# EAGLE library part MOLEX-85505-5002 (library cpsmv)
RJ45 Connector, Through-hole, Shielded, Right-angle
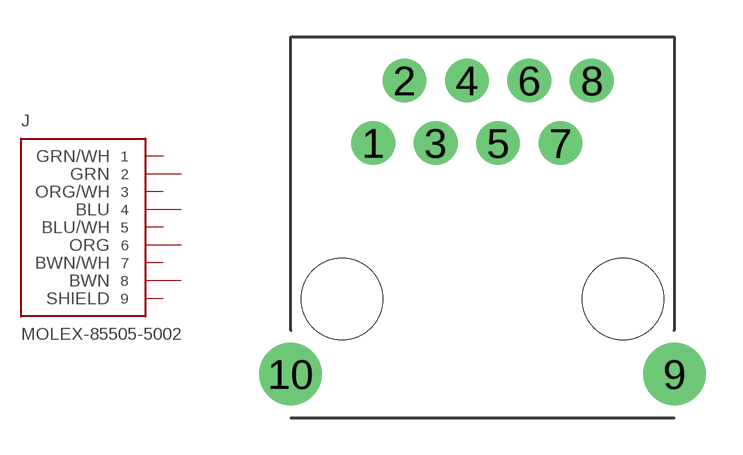
[diagram p14: symbol with the pads of 85505-5002; footprint 85505-5002]

Designator prefix J

## MOLEX-85505-5002 (DATASHEET_LINK: http://www.molex.com/pdm_docs/sd/855055002_sd.pdf; MANUFACTURER: Molx; MANUFACTURER_PN: 855055002; PACKAGE: RJ45, Thru-hole, Shielded, R/A; SUPPLIER: Digi-Key; SUPPLIER_PN: WM7131CT-ND)  [85505-5002]
1  1  pwr
2  2  pas
3  3  pas
4  4  pas
5  5  pas
6  6  pas
7  7  pas
8  8  pas
9  9  pas
10  9  pas

## Footprint 85505-5002 (pad centres in mm)
drill 1 pad 1.778: 1 -4.445,-1.27; 2 -3.175,1.27; 3 -1.905,-1.27; 4 -0.635,1.27; 5 0.635,-1.27; 6 1.905,1.27; 7 3.175,-1.27; 8 4.445,1.27
drill 1.6 pad 2.54: 9 7.805,-10.67; 10 -7.805,-10.67
hole 3.3 at 5.715,-7.62
hole 3.3 at -5.715,-7.62